# EAGLE library part RA-4 (library resistorarray)
Dimentions sources from here: http://www.ctscorp.com/components/Datasheets/CTSChipArrayDs.pdf
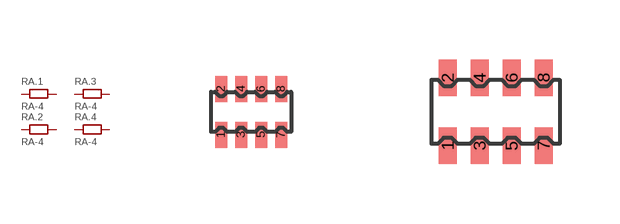
[diagram p0: symbol with the pads of 0402.4.C; footprints 0402.4.C, 0603.4.C]

Designator prefix RA; gates .1=RESISTOR .2=RESISTOR .3=RESISTOR .4=RESISTOR

## RA-4.0402  [0402.4.C]
1  .1:1
2  .1:2
3  .2:1
4  .2:2
5  .3:1
6  .3:2
7  .4:1
8  .4:2

## RA-4.0603  [0603.4.C]
Pads as for 0402.4.C

## Footprint 0402.4.C (pad centres in mm)
smd 0.3 x 0.65: 1 -0.75,-0.575; 2 -0.75,0.575; 3 -0.25,-0.575; 4 -0.25,0.575; 5 0.25,-0.575; 6 0.25,0.575; 7 0.75,-0.575; 8 0.75,0.575

## Footprint 0603.4.C (pad centres in mm)
smd 0.45 x 0.9: 1 -1.2,-0.85; 2 -1.2,0.85; 3 -0.4,-0.85; 4 -0.4,0.85; 5 0.4,-0.85; 6 0.4,0.85; 7 1.2,-0.85; 8 1.2,0.85